# Altium schematic symbol library Schlib1.SchLib: 13 symbols
Pins are listed as number, name and electrical type; pins without a type are passive.

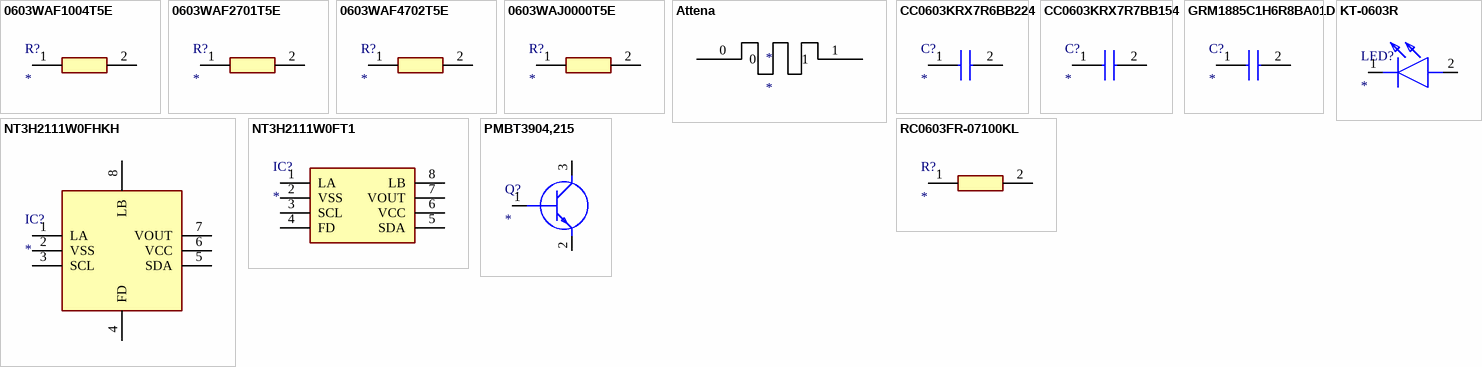
[diagram p0: symbols 0603WAF1004T5E to RC0603FR-07100KL]

## 0603WAF1004T5E
designator R?
Resistor; Manufacturer_Name: ROYALOHM; Manufacturer_Part_Number: 0603WAF1004T5E; Description: Resistances with thick foil - SMD RMC 0603 1/10W 1% T/R-5000; Datasheet Link: https://eu.mouser.com/datasheet/3/5925/1/1.pdf; Height: 0.55mm; Mouser Part Number: 303-0603WAF1004T5E; Mouser Price/Stock: https://www.mouser.co.uk/ProductDetail/Royalohm/0603WAF1004T5E?qs=e8oIoAS2J1ROidUp2W57ZQ%3D%3D
footprint RESC1608X55N
pins: 1, 2

## 0603WAF2701T5E
designator R?
Resistor; Manufacturer_Name: UNI-ROYAL(Uniroyal Elec); Manufacturer_Part_Number: 0603WAF2701T5E; Description: Chip Resistor - Surface Mount 2.7KOhms +/-1% 1/10W 0603 RoHS; Datasheet Link: https://datasheet.lcsc.com/szlcsc/Uniroyal-Elec-0603WAF2701T5E_C13167.pdf; Height: 0.55mm
footprint RESC1608X55N
pins: 1, 2

## 0603WAF4702T5E
designator R?
Resistor; Manufacturer_Name: UNI-ROYAL(Uniroyal Elec); Manufacturer_Part_Number: 0603WAF4702T5E; Description: Chip Resistor - Surface Mount 47KOhms +/-1% 1/10W 0603 RoHS; Datasheet Link: https://datasheet.lcsc.com/szlcsc/Uniroyal-Elec-0603WAF4702T5E_C25819.pdf; Height: 0.55mm
footprint RESC1608X55N
pins: 1, 2

## 0603WAJ0000T5E
designator R?
Resistor; Manufacturer_Name: ROYALOHM; Manufacturer_Part_Number: 0603WAJ0000T5E; Description: Thick Film Resistors - SMD 0603 1/10W 5% 0R T/R-5000; Datasheet Link: https://datasheet.lcsc.com/lcsc/2110260030_UNI-ROYAL-Uniroyal-Elec-0603WAF4702T5E_C25819.pdf; Height: 0.55mm; Mouser Part Number: 303-0603WAJ0000T5E; Mouser Price/Stock: https://www.mouser.co.uk/ProductDetail/Royalohm/0603WAJ0000T5E?qs=e8oIoAS2J1T%252BUJj0iDaz%252BQ%3D%3D
footprint RESC1608X55N
pins: 1, 2

## Attena
designator *
footprint PCBComponent_1 - duplicate
pins: 0, 1

## CC0603KRX7R6BB224
designator C?
Capacitor; Manufacturer_Name: Yageo Group; Manufacturer_Part_Number: CC0603KRX7R6BB224; Description: YAGEO - CC0603KRX7R6BB224 - CAP; Datasheet Link: https://datasheet.datasheetarchive.com/originals/distributors/Datasheets_SAMA/d9f127a4875522309d99aa7dec79633c.pdf; Height: 0.9mm; Mouser Part Number: 603-CC603KRX7R6BB224; Mouser Price/Stock: https://www.mouser.co.uk/ProductDetail/YAGEO/CC0603KRX7R6BB224?qs=AgBp2OyFlx%2FjY688uweV8w%3D%3D; Arrow Part Number: CC0603KRX7R6BB224; Arrow Price/Stock: https://www.arrow.com/en/products/cc0603krx7r6bb224/yageo?region=nac
footprint CAPC1608X90N
pins: 1, 2

## CC0603KRX7R7BB154
designator C?
Capacitor; Manufacturer_Name: Yageo Group; Manufacturer_Part_Number: CC0603KRX7R7BB154; Description: Multilayer Ceramic Capacitors MLCC - SMD/SMT 150nF 16V X7R 10%; Datasheet Link: https://www.yageo.com/upload/media/product/productsearch/datasheet/mlcc/UPY-NP0X7R_MV_100-to-630V_24.pdf; Height: 0.9mm; Mouser Part Number: 603-CC603KRX7R7BB154; Mouser Price/Stock: https://www.mouser.com/Search/Refine.aspx?Keyword=603-CC603KRX7R7BB154; Arrow Part Number: CC0603KRX7R7BB154; Arrow Price/Stock: https://www.arrow.com/en/products/cc0603krx7r7bb154/yageo
footprint CAPC1608X90N
pins: 1, 2

## GRM1885C1H6R8BA01D
designator C?
Capacitor; Manufacturer_Name: Murata Electronics; Manufacturer_Part_Number: GRM1885C1H6R8BA01D; Description: Murata 0603 GRM 6.8pF Ceramic Multilayer Capacitor; Datasheet Link: https://search.murata.co.jp/Ceramy/image/img/A01X/G101/ENG/GRM1885C1H6R8BA01-01A.pdf; Height: 0.9mm; Mouser Part Number: 81-GRM1885C1H6R8BA1D; Mouser Price/Stock: https://www.mouser.com/Search/Refine.aspx?Keyword=81-GRM1885C1H6R8BA1D; Arrow Part Number: GRM1885C1H6R8BA01D; Arrow Price/Stock: https://www.arrow.com/en/products/grm1885c1h6r8ba01d/murata-manufacturing?region=nac
footprint CAPC1608X90N
pins: 1, 2

## KT-0603R
designator LED?
LED; Manufacturer_Name: Hubei KENTO Elec; Manufacturer_Part_Number: KT-0603R; Description: Red 615~630nm 1.9~2.2V 0603 Light Emitting Diodes (LED) RoHS; Datasheet Link: https://datasheet.lcsc.com/szlcsc/Hubei-KENTO-Elec-KT-0603R_C2286.pdf; Height: 0.7mm
footprint LEDC1608X70N
pins: 1 K, 2 A

## NT3H2111W0FHKH
designator IC?
Integrated Circuit; Manufacturer_Name: NXP; Manufacturer_Part_Number: NT3H2111W0FHKH; Description: RFID Transponders BL SECURE MOBILE TRANSACTIONS; Datasheet Link: http://www.nxp.com/docs/en/data-sheet/NT3H2111_2211.pdf; Height: 0.5mm; Mouser Part Number: 771-NT3H2111W0FHKH; Mouser Price/Stock: https://www.mouser.co.uk/ProductDetail/NXP-Semiconductors/NT3H2111W0FHKH?qs=5ptrxOxu%252BRZMzi3WKYp3lA%3D%3D; Arrow Part Number: NT3H2111W0FHKH; Arrow Price/Stock: https://www.arrow.com/en/products/nt3h2111w0fhkh/nxp-semiconductors.html?utm_currency=USD&region=nac
footprint QFN50P160X160X50-8N
pins: 1 LA, 2 VSS, 3 SCL, 4 FD, 5 SDA, 6 VCC, 7 VOUT, 8 LB

## NT3H2111W0FT1
designator IC?
Integrated Circuit; Manufacturer_Name: NXP; Manufacturer_Part_Number: NT3H2111W0FT1; Description: Plastic small outline package; 8 leads; body width 3.9 mm; Datasheet Link: https://www.nxp.com/docs/en/data-sheet/NT3H2111_2211.pdf; Height: 1.75mm
footprint SOIC127P600X175-8N
pins: 1 LA, 2 VSS, 3 SCL, 4 FD, 5 SDA, 6 VCC, 7 VOUT, 8 LB

## PMBT3904,215
designator Q?
Transistor BJT NPN; Manufacturer_Name: Nexperia; Manufacturer_Part_Number: PMBT3904,215; Description: PMBT3904 - 40 V; Datasheet Link: https://assets.nexperia.com/documents/data-sheet/PMBT3904.pdf; Height: 1.1mm; Mouser Part Number: 771-PMBT3904-T/R; Mouser Price/Stock: https://www.mouser.co.uk/ProductDetail/Nexperia/PMBT3904215?qs=LOCUfHb8d9tXximHEgx1nw%3D%3D; Arrow Part Number: PMBT3904,215; Arrow Price/Stock: https://www.arrow.com/en/products/pmbt3904215/nexperia.html?utm_currency=USD&region=asia
footprint SOT95P230X110-3N
pins: 1 B, 2 E, 3 C

## RC0603FR-07100KL
designator R?
Resistor; Manufacturer_Name: Yageo Group; Manufacturer_Part_Number: RC0603FR-07100KL; Description: 100 kOhms +/-1% 0.1W; Datasheet Link: https://www.yageo.com/upload/media/product/productsearch/datasheet/rchip/PYu-RC_Group_51_RoHS_L_12.pdf; Height: 0.55mm; Mouser Part Number: 603-RC0603FR-07100KL; Mouser Price/Stock: https://www.mouser.co.uk/ProductDetail/YAGEO/RC0603FR-07100KL?qs=e1ok2LiJcmaihem8Va5%2Fsw%3D%3D; Arrow Part Number: RC0603FR-07100KL; Arrow Price/Stock: https://www.arrow.com/en/products/rc0603fr07100kl/yageo.html?utm_currency=USD&region=europe
footprint RESC1608X55N
pins: 1, 2